# EAGLE library part BEAGLEBONE_CON_P8_L (library BeagleBone)
BeagleBone Connector P8 (large symbol) by Rainer Lietz License: CC-Zero The SMD-Version has to be mirrored to the bottom layer of the PCB.
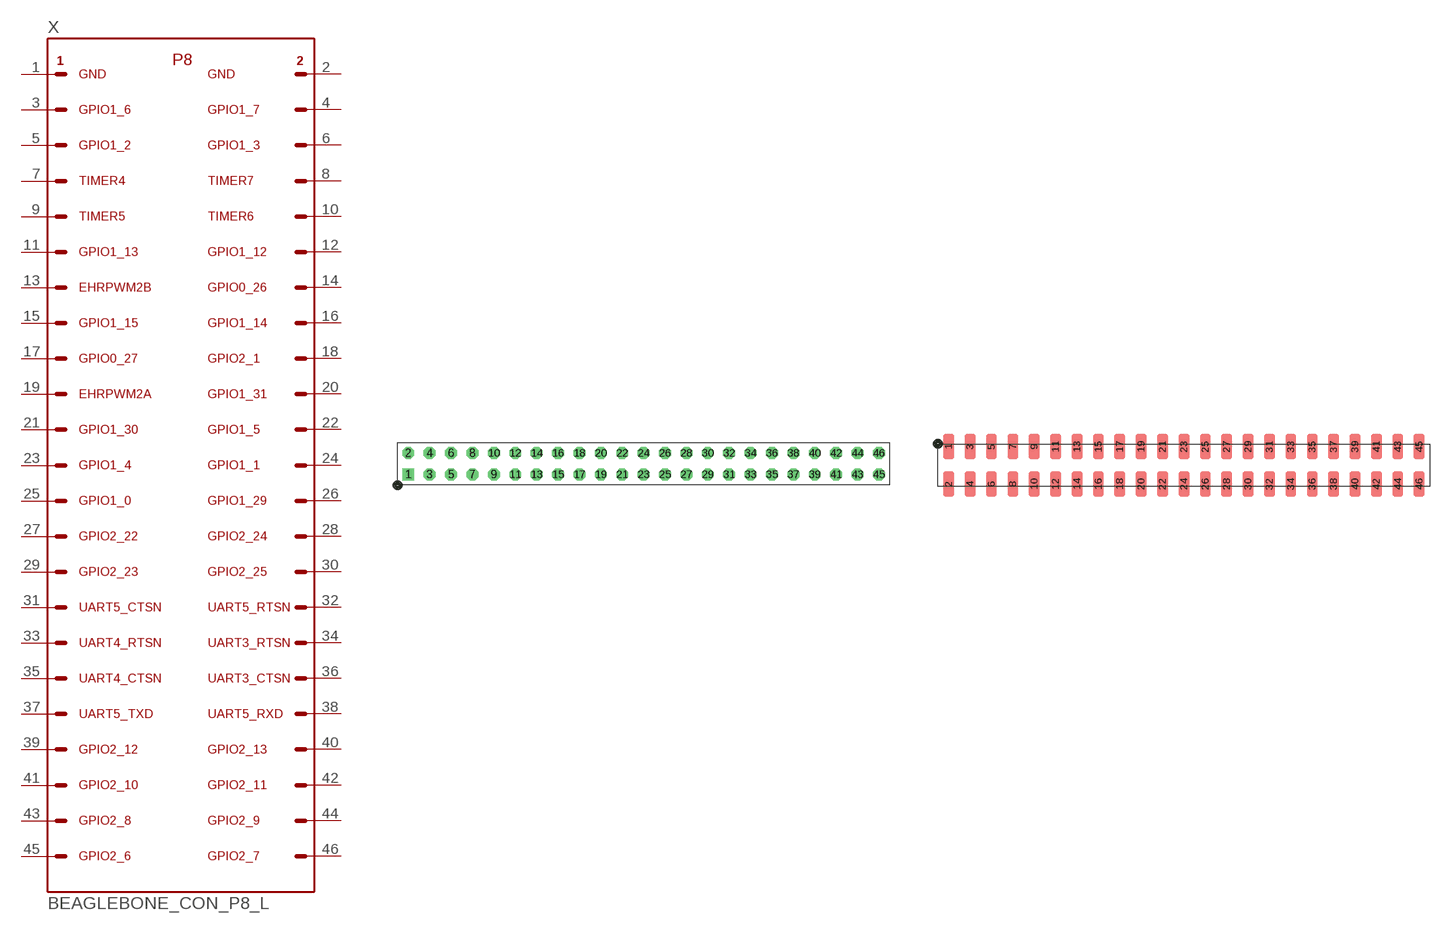
[diagram p2: symbol with the pads of 23X2_2-54; footprints 23X2_2-54, 23X2_2-54_SMD]

Designator prefix X

## BEAGLEBONE_CON_P8_L  [23X2_2-54]
1  1  pas
2  2  pas
3  3  pas
4  4  pas
5  5  pas
6  6  pas
7  7  pas
8  8  pas
9  9  pas
10  10  pas
11  11  pas
12  12  pas
13  13  pas
14  14  pas
15  15  pas
16  16  pas
17  17  pas
18  18  pas
19  19  pas
20  20  pas
21  21  pas
22  22  pas
23  23  pas
24  24  pas
25  25  pas
26  26  pas
27  27  pas
28  28  pas
29  29  pas
30  30  pas
31  31  pas
32  32  pas
33  33  pas
34  34  pas
35  35  pas
36  36  pas
37  37  pas
38  38  pas
39  39  pas
40  40  pas
41  41  pas
42  42  pas
43  43  pas
44  44  pas
45  45  pas
46  46  pas

## BEAGLEBONE_CON_P8_LSMD  [23X2_2-54_SMD]
1  1  pas
2  2  pas
3  3  pas
4  4  pas
5  5  pas
6  6  pas
7  7  pas
8  8  pas
9  9  pas
10  10  pas
11  11  pas
12  12  pas
13  13  pas
14  14  pas
15  15  pas
16  16  pas
17  17  pas
18  18  pas
19  19  pas
20  20  pas
21  21  pas
22  22  pas
23  23  pas
24  24  pas
25  25  pas
26  26  pas
27  27  pas
28  28  pas
29  29  pas
30  30  pas
31  31  pas
32  32  pas
33  33  pas
34  34  pas
35  35  pas
36  36  pas
37  37  pas
38  38  pas
39  39  pas
40  40  pas
41  42  pas
42  41  pas
43  44  pas
44  43  pas
45  46  pas
46  45  pas

## Footprint 23X2_2-54 (pad centres in mm)
connector 23x2 2.54 CC0
drill 0.9 square: 1 0,0
drill 0.9 octagon: 2 0,2.54; 3 2.54,0; 4 2.54,2.54; 5 5.08,0; 6 5.08,2.54; 7 7.62,0; 8 7.62,2.54; 9 10.16,0; 10 10.16,2.54; 11 12.7,0; 12 12.7,2.54; 13 15.24,0; 14 15.24,2.54; 15 17.78,0; 16 17.78,2.54; 17 20.32,0; 18 20.32,2.54; 19 22.86,0; 20 22.86,2.54; 21 25.4,0; 22 25.4,2.54; 23 27.94,0; 24 27.94,2.54; 25 30.48,0; 26 30.48,2.54; 27 33.02,0; 28 33.02,2.54; 29 35.56,0; 30 35.56,2.54; 31 38.1,0; 32 38.1,2.54; 33 40.64,0; 34 40.64,2.54; 35 43.18,0; 36 43.18,2.54; 37 45.72,0; 38 45.72,2.54; 39 48.26,0; 40 48.26,2.54; 41 50.8,0; 42 50.8,2.54; 43 53.34,0; 44 53.34,2.54; 45 55.88,0; 46 55.88,2.54

## Footprint 23X2_2-54_SMD (pad centres in mm)
smd 1.27 x 3.048: 1 0,0.953; 2 0,-3.493; 3 2.54,0.953; 4 2.54,-3.493; 5 5.08,0.953; 6 5.08,-3.493; 7 7.62,0.953; 8 7.62,-3.493; 9 10.16,0.953; 10 10.16,-3.493; 11 12.7,0.953; 12 12.7,-3.493; 13 15.24,0.953; 14 15.24,-3.493; 15 17.78,0.953; 16 17.78,-3.493; 17 20.32,0.953; 18 20.32,-3.493; 19 22.86,0.953; 20 22.86,-3.493; 21 25.4,0.953; 22 25.4,-3.493; 23 27.94,0.953; 24 27.94,-3.493; 25 30.48,0.953; 26 30.48,-3.493; 27 33.02,0.953; 28 33.02,-3.493; 29 35.56,0.953; 30 35.56,-3.493; 31 38.1,0.953; 32 38.1,-3.493; 33 40.64,0.953; 34 40.64,-3.493; 35 43.18,0.953; 36 43.18,-3.493; 37 45.72,0.953; 38 45.72,-3.493; 39 48.26,0.953; 40 48.26,-3.493; 41 50.8,0.953; 42 50.8,-3.493; 43 53.34,0.953; 44 53.34,-3.493; 45 55.88,0.953; 46 55.88,-3.493